# Altium footprint library EwgSwitchers.PcbLib: 19 footprints (part 1 of 2)
Each footprint in its own frame and in the unit in brackets; x right, y up, seen from the top. Pads: shape width x height; smd on the part's side, far side on the other; paste and mask are expansions set on the pad; w line width, h text height; cw(c..) or ccw(c..) is an arc to the next point about the centre after c.
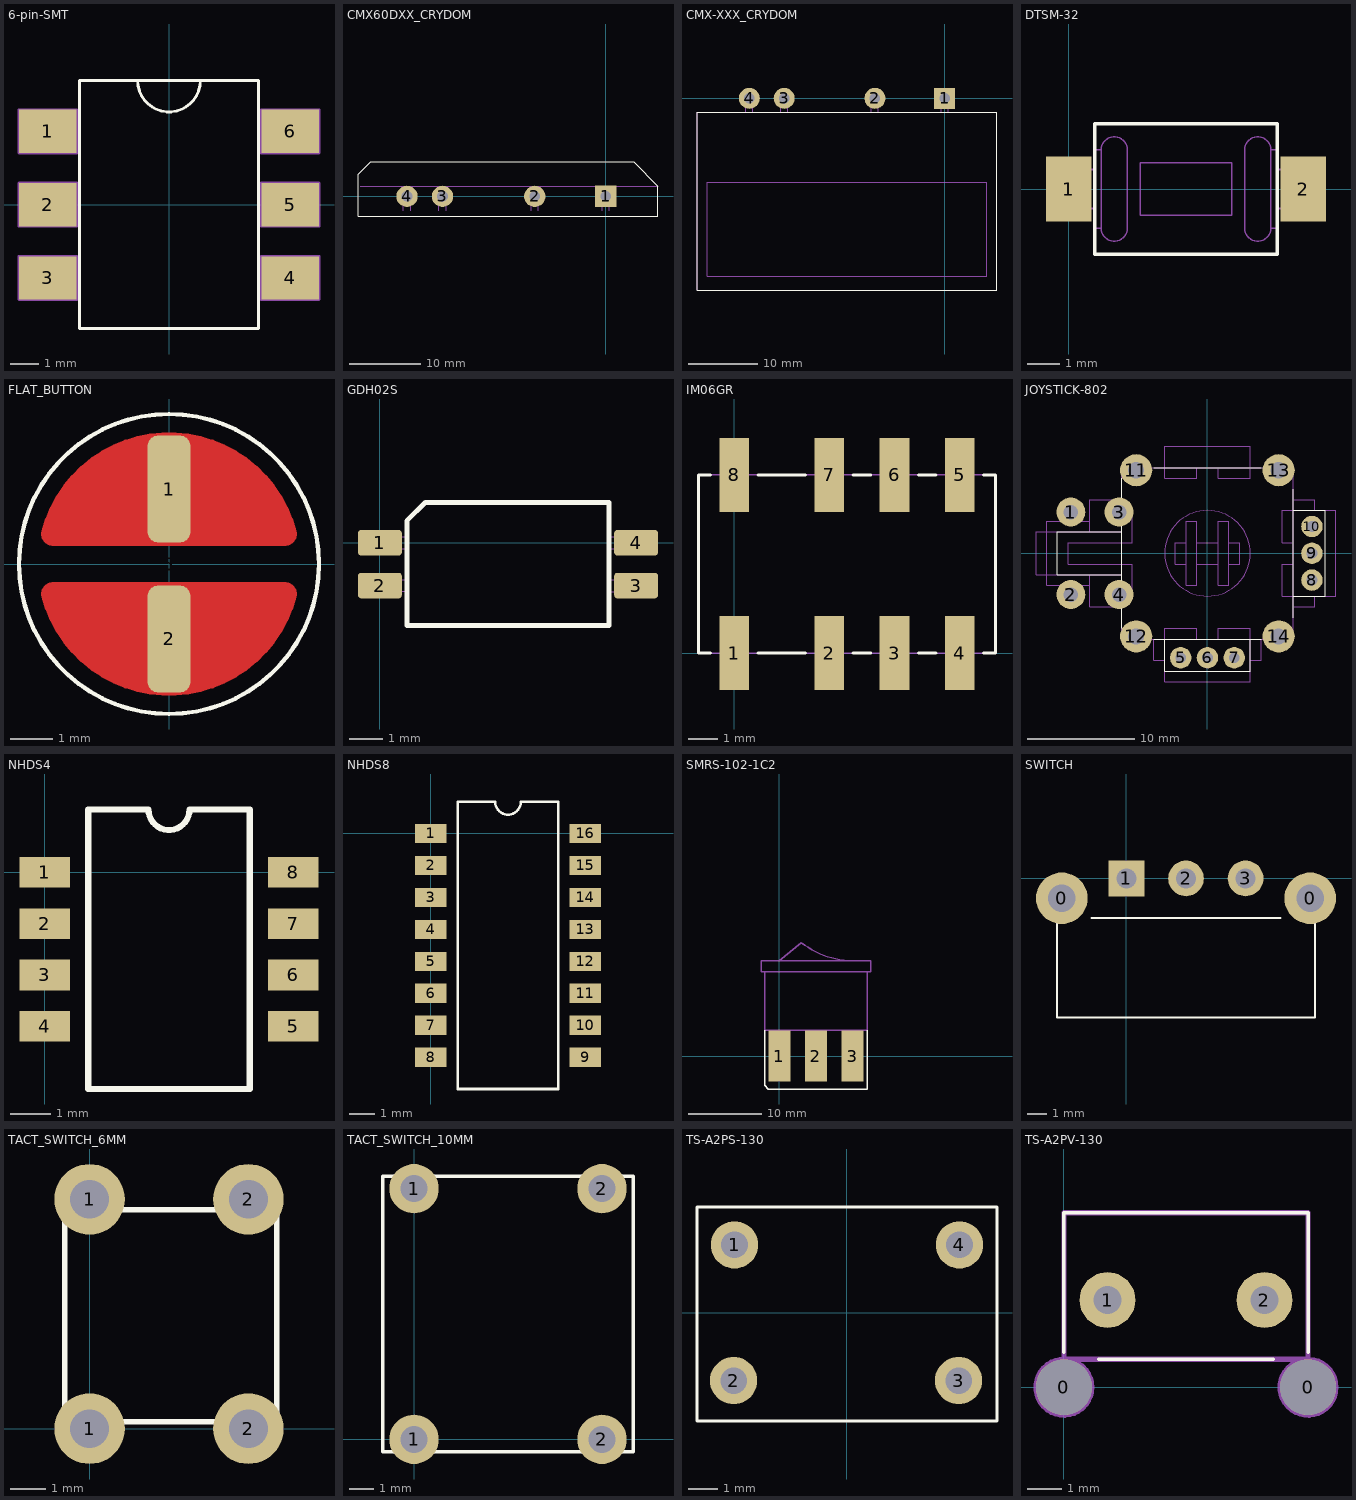
[diagram p0: the footprints below, top view; thin cyan lines are the x and y axes]

## 6-pin-SMT [mm]
height 4
pads (6):
  rect 2x1.5 smd: 1(-4.2,2.54) 2(-4.2,0) 3(-4.2,-2.54) 4(4.2,-2.54) 5(4.2,0) 6(4.2,2.54)
Top Overlay:
  lines w0.1: -1.085,4.3 ccw(c0,4.3) 1.085,4.3 ; -3.1,-4.3 -3.1,4.3 3.1,4.3 3.1,-4.3 -3.1,-4.3
Mechanical 1:
  lines w0.1: -5.2,-3.29 -5.2,-1.79 -3.2,-1.79 -3.2,-3.29 -5.2,-3.29 ; -5.2,-0.75 -5.2,0.75 -3.2,0.75 -3.2,-0.75 -5.2,-0.75 ; -5.2,1.79 -5.2,3.29 -3.2,3.29 -3.2,1.79 -5.2,1.79 ; 3.2,-3.29 3.2,-1.79 5.2,-1.79 5.2,-3.29 3.2,-3.29 ; 3.2,-0.75 3.2,0.75 5.2,0.75 5.2,-0.75 3.2,-0.75 ; 3.2,1.79 3.2,3.29 5.2,3.29 5.2,1.79 3.2,1.79

## CMX60DXX_CRYDOM [mm]
height 25
pads (4):
  rect 3x3 hole 1.5: 1(0,0)
  round 3 hole 1.5: 2(-10,0) 3(-23,0) 4(-28,0)
Top Overlay:
  lines w0.1: -34.9,-2.8 -23.95,-2.8 -2.45,-2.8 7.35,-2.8 7.35,1.425 3.9,4.875 -33.125,4.875 -34.9,3.1 -34.9,-2.8
Mechanical 1:
  lines w0.05: -34.575,1.425 7.35,1.425 ; -28.5,-2 -28.5,0 cw(c-28,0) -27.5,0 -27.5,-2 ; -23.5,-2 -23.5,0 cw(c-23,0) -22.5,0 -22.5,-2 ; -10.5,-2 -10.5,0 cw(c-10,0) -9.5,0 -9.5,-2 ; -0.5,-2 -0.5,0 cw(c0,0) 0.5,0 0.5,-2
3D body: height 23.43, standoff -4.32, extent -34.604,-2.55 7.052,4.572

## CMX-XXX_CRYDOM [mm]
pads (4):
  rect 3x3 hole 1.5: 1(0,0)
  round 3 hole 1.5: 2(-10,0) 3(-23,0) 4(-28,0)
Top Overlay:
  lines w0.1: -35.5,-27.5 -35.5,-2 7.5,-2 7.5,-27.5 -35.5,-27.5
Mechanical 1:
  lines w0.05: -28.5,-2 -28.5,0 cw(c-28,0) -27.5,0 -27.5,-2 ; -23.5,-2 -23.5,0 cw(c-23,0) -22.5,0 -22.5,-2 ; -10.5,-2 -10.5,0 cw(c-10,0) -9.5,0 -9.5,-2 ; -0.5,-2 -0.5,0 cw(c0,0) 0.5,0 0.5,-2 ; -35.5,-27.5 -35.5,-2 7.5,-2 7.5,-27.5 -35.5,-27.5 ; -34,-25.5 -34,-12 6,-12 6,-25.5 -34,-25.5

## DTSM-32 [mm]
pads (2):
  rect 1.4x2 smd: 1(0,0) 2(7.2,0)
Top Overlay:
  lines w0.1: 0.8,-2 0.8,2 6.4,2 6.4,-2 0.8,-2
Mechanical 1:
  lines w0.05: 0.6,-0.6 0.6,0.6 ; 0.8,-1.2 1,-1.2 ; 0.8,-0.6 0,-0.6 0,0.6 0.8,0.6 ; 0.8,1.2 1,1.2 ; 6.4,-1.2 6.2,-1.2 ; 6.4,-0.6 7.2,-0.6 7.2,0.6 6.4,0.6 ; 6.4,1.2 6.2,1.2 ; 6.6,-0.6 6.6,0.6 ; 1,-1.2 ccw(c1.4,-1.2) 1.8,-1.2 1.8,1.2 ccw(c1.4,1.2) 1,1.2 ; 1,-1.2 1,1.2 ; 6.2,-1.2 cw(c5.8,-1.2) 5.4,-1.2 5.4,1.2 cw(c5.8,1.2) 6.2,1.2 ; 6.2,-1.2 6.2,1.2 ; 0.8,-2 0.8,2 6.4,2 6.4,-2 0.8,-2 ; 2.2,-0.8 2.2,0.8 5,0.8 5,-0.8 2.2,-0.8

## FLAT_BUTTON [mm]
pads (3):
  rrect50% 1x2.5 smd: 1(0,1.75) 2(0,-1.75)
  round 6.2 on Top Solder: 5(0,0)
Top Layer:
  region: 2.8,0.5 2.9,0.6 2.8,0.9 2.6,1.4 2.4,1.7 2.2,2 2,2.2 1.6,2.5 1.2,2.7 0.7,2.9 0.3,3 -0.3,3 -0.7,2.9 -1,2.8 -1.6,2.5 -1.9,2.3 -2.2,2 -2.5,1.6 -2.8,1 -2.9,0.6 -2.8,0.5
  region: -2.8,-0.5 -2.9,-0.6 -2.8,-0.9 -2.6,-1.4 -2.4,-1.7 -2.2,-2 -2,-2.2 -1.6,-2.5 -1.2,-2.7 -0.7,-2.9 -0.3,-3 0.3,-3 0.7,-2.9 1,-2.8 1.6,-2.5 1.9,-2.3 2.2,-2 2.5,-1.6 2.8,-1 2.9,-0.6 2.8,-0.5
  lines w0.15: -2.905,-0.75 cw(c-2.711,-0.7) -2.711,-0.5 2.711,-0.5 cw(c2.711,-0.7) 2.905,-0.75 cw(c0,0) -2.905,-0.75 ; -2.905,0.75 ccw(c-2.711,0.7) -2.711,0.5 2.711,0.5 ccw(c2.711,0.7) 2.905,0.75 ccw(c0,0) -2.905,0.75
Top Overlay:
  circle w0.1: c0,0 r3.5
Top Paste:
  region: 2.8,0.5 2.9,0.6 2.8,0.9 2.6,1.4 2.4,1.7 2.2,2 2,2.2 1.6,2.5 1.2,2.7 0.7,2.9 0.3,3 -0.3,3 -0.7,2.9 -1,2.8 -1.6,2.5 -1.9,2.3 -2.2,2 -2.5,1.6 -2.8,1 -2.9,0.6 -2.8,0.5
  region: -2.8,-0.5 -2.9,-0.6 -2.8,-0.9 -2.6,-1.4 -2.4,-1.7 -2.2,-2 -2,-2.2 -1.6,-2.5 -1.2,-2.7 -0.7,-2.9 -0.3,-3 0.3,-3 0.7,-2.9 1,-2.8 1.6,-2.5 1.9,-2.3 2.2,-2 2.5,-1.6 2.8,-1 2.9,-0.6 2.8,-0.5

## GDH02S [mm] "DIP-switch"
height 2.3
pads (4):
  rrect25% 1.3x0.76 smd: 1(0,0) 2(0,-1.27) 3(7.6,-1.27) 4(7.6,0)
Top Overlay:
  lines w0.15: 0.8,-2.46 6.8,-2.46 6.8,1.2 1.35,1.2 0.8,0.65 0.8,-2.46
Mechanical 1:
  lines w0.01: 0.8,-1.445 -0.275,-1.445 -0.275,-1.095 0.8,-1.095 ; 0.8,-0.175 -0.275,-0.175 -0.275,0.175 0.8,0.175 ; 6.8,-1.45 7.875,-1.45 7.875,-1.1 6.8,-1.1 ; 6.8,-0.175 7.875,-0.175 7.875,0.175 6.8,0.175 ; 0.8,-2.46 0.8,0.65 1.35,1.2 6.8,1.2 6.8,-2.46 0.8,-2.46
3D body: height 2.35, standoff 0, extent -0.267,-2.444 7.866,1.23

## IM06GR [mm]
pads (8):
  rect 1x2.5 smd: 1(0,0) 2(3.2,0) 3(5.4,0) 4(7.6,0) 5(7.6,6) 6(5.4,6) 7(3.2,6) 8(0,6)
Top Overlay:
  lines w0.1: -0.8,0 -1.2,0 -1.2,6 -0.8,6 ; 0.8,0 2.4,0 ; 0.8,6 2.4,6 ; 4,0 4.6,0 ; 4,6 4.6,6 ; 6.2,0 6.8,0 ; 6.2,6 6.8,6 ; 8.4,0 8.8,0 8.8,6 8.4,6
Mechanical 1:
  lines w0.05: -1.2,0 8.8,0 8.8,6 -1.2,6 -1.2,0
3D body: height 5.75, standoff 0, extent -1.2,-0.75 8.8,6.75

## JOYSTICK-802 [mm]
pads (14):
  round 2.7 hole 1.35: 1(-12.75,3.85) 2(-12.75,-3.85) 3(-8.25,3.85) 4(-8.25,-3.85)
  round 2 hole 1: 5(-2.5,-9.75) 6(0,-9.75) 7(2.5,-9.75) 8(9.75,-2.5) 9(9.75,0) 10(9.75,2.5)
  round 3 hole 1.5: 11(-6.65,7.75) 12(-6.65,-7.75) 13(6.65,7.75) 14(6.65,-7.75)
Top Overlay:
  lines w0.1: -8,-7 -8,-5 ; -8,-3 -8,3 ; -8,-2 -14,-2 -14,2 -8,2 ; -8,5 -8,7 ; -5,-8 5,-8 ; -5,8 5,8 ; -4,-8 -4,-11 4,-11 4,-8 ; 8,-6 8,6 ; 8,-4 11,-4 11,4 8,4
Mechanical 1:
  circle w0.05: c0,0 r4
  lines w0.05: -11,-3 -12,-3 -15,-3 -15,3 -11,3 ; -8,-5 -11,-5 -11,-2 ; -8,-4 -7,-4 -7,-1 -8,-1 -13,-1 -13,1 -8,1 -7,1 -7,4 -8,4 ; -8,-2 -11,-2 ; -8,2 -11,2 ; -8,5 -11,5 -11,2 ; -5,-8 -5,-10 -4,-10 ; -2,-1 -3,-1 -3,1 -2,1 ; -1,-8 -1,-7 -4,-7 -4,-8 -4,-12 4,-12 4,-8 4,-7 1,-7 1,-8 ; -1,-1 1,-1 ; -1,1 1,1 ; -1,8 -1,7 -4,7 -4,8 -4,10 4,10 4,8 4,7 1,7 1,8 ; 2,-1 3,-1 3,1 2,1 ; 4,-10 5,-10 5,-9 5,-8 ; 8,-5 9,-5 10,-5 10,-4 ; 8,-1 7,-1 7,-4 8,-4 12,-4 12,4 8,4 7,4 7,1 8,1 ; 8,5 10,5 10,4 ; -11,-2 -15,-2 -16,-2 -16,2 -15,2 -11,2 ; -8,-8 8,-8 8,8 -8,8 -8,-8 ; -2,-3 -2,3 -1,3 -1,-3 -2,-3 ; 1,-3 1,3 2,3 2,-3 1,-3
3D body: height 28.61, standoff -3, extent -15.042,-13.322 13.169,12.976

## NHDS4 [mm]
pads (8):
  rect 1.25x0.76 smd: 1(0,0) 2(0,-1.27) 3(0,-2.54) 4(0,-3.81) 5(6.15,-3.81) 6(6.15,-2.54) 7(6.15,-1.27) 8(6.15,0)
Top Overlay:
  lines w0.15: 1.075,-5.365 1.075,1.555 2.567,1.555 ccw(c3.075,1.555) 3.583,1.555 5.075,1.555 5.075,-5.365 1.075,-5.365
3D body: height 1.55, standoff 0, extent -0.25,-5.055 6.45,1.255

## NHDS8 [mm]
pads (16):
  rect 1.25x0.76 smd: 1(0,0) 2(0,-1.27) 3(0,-2.54) 4(0,-3.81) 5(0,-5.08) 6(0,-6.35) 7(0,-7.62) 8(0,-8.89) 9(6.15,-8.89) 10(6.15,-7.62) 11(6.15,-6.35) 12(6.15,-5.08) 13(6.15,-3.81) 14(6.15,-2.54) 15(6.15,-1.27) 16(6.15,0)
Top Overlay:
  lines w0.1: 1.075,1.25 1.075,-10.15 5.075,-10.15 5.075,1.25 ; 1.075,1.255 2.567,1.255 ccw(c3.075,1.255) 3.583,1.255 5.075,1.255
3D body: height 1.55, standoff 0, extent -0.275,-10.14 6.425,1.25

## SMRS-102-1C2 [mm]
pads (3):
  rect 3x7 smd: 1(0,0) 2(5,0) 3(10,0)
Top Overlay:
  lines w0.2: -2,3.5 -2,-4 -1.5,-4.5 12,-4.5 12,3.5
Mechanical 1:
  lines w0.2: -2,11.5 -2,3.5 12,3.5 12,11.5 ; -0.5,3.5 -0.5,-2 0.5,-2 0.5,3.5 ; 0,13 3,15.5 ccw(c10.244,24.734) 10,13 ; 4.5,3.5 4.5,-2 5.5,-2 5.5,3.5 ; 9.5,3.5 9.5,-2 10.5,-2 10.5,3.5 ; -2.5,11.5 12.5,11.5 12.5,13 -2.5,13 -2.5,11.5
3D body: height 7, standoff -3.5, extent -2.497,-0.341 12.503,17.992

## SWITCH [mm]
pads (5):
  round 2.6 hole 1.4 unplated: 0(-3.25,-1) 0(9.25,-1)
  rect 1.8x1.8 hole 1 unplated: 1(0,0)
  round 1.8 hole 1 unplated: 2(3,0) 3(6,0)
Top Overlay:
  lines w0.1: -3,-0.5 -3.5,-0.5 -3.5,-7 9.5,-7 9.5,-0.5 ; -1.75,-2 7.75,-2

## TACT_SWITCH_6MM [mm]
pads (4):
  round 2 hole 1.1: 1(0,0) 1(0,6.5) 2(4.5,0) 2(4.5,6.5)
Top Overlay:
  lines w0.15: -0.7,0.2 5.3,0.2 5.3,6.2 -0.7,6.2 -0.7,0.2
3D body: height 5.4, standoff -3.09, extent -0.8,-0.689 5.2,7.289

## TACT_SWITCH_10MM [mm] "5GTH9"
pads (4):
  round 2 hole 1.1: 1(0,0) 1(0,10.16) 2(7.62,0) 2(7.62,10.16)
Top Overlay:
  lines w0.15: -1.27,-0.508 -1.27,10.668 8.89,10.668 8.89,-0.508 -1.27,-0.508
3D body: height 8.8, standoff -5.58, extent -1.27,-1.674 8.888,11.834

## TS-A2PS-130 [mm]
pads (4):
  round 1.6 hole 0.9: 1(-3.794,2.297) 2(-3.826,-2.297) 3(3.794,-2.297) 4(3.826,2.297)
Top Overlay:
  lines w0.1: -5.064,-3.672 5.096,-3.672 5.096,3.587 -5.064,3.587 -5.064,-3.672
3D body: height 6.5, standoff -2, extent -4.128,-3.253 4.14,3.247

## TS-A2PV-130 [mm]
pads (4):
  round 1.6 hole 1.6 unplated: 0(0,0) 0(7,0)
  round 1.6 hole 0.8 unplated: 1(1.25,2.5) 2(5.75,2.5)
Top Overlay:
  lines w0.1: 0,1 0,5 7,5 7,1 ; 1,0.8 6,0.8
Mechanical 1:
  circle w0.15: c7,0 r0.8
  circle w0.15: c0,0 r0.8
  lines w0.15: 0,0 0,2.8 ; 7,0 7,2.8 ; 0,0.8 7,0.8 7,5 0,5 0,0.8